# Altium footprint library PcbLib1.PcbLib: 10 footprints
Each footprint in its own frame and in the unit in brackets; x right, y up, seen from the top. Pads: shape width x height; smd on the part's side, far side on the other; paste and mask are expansions set on the pad; w line width, h text height; cw(c..) or ccw(c..) is an arc to the next point about the centre after c.
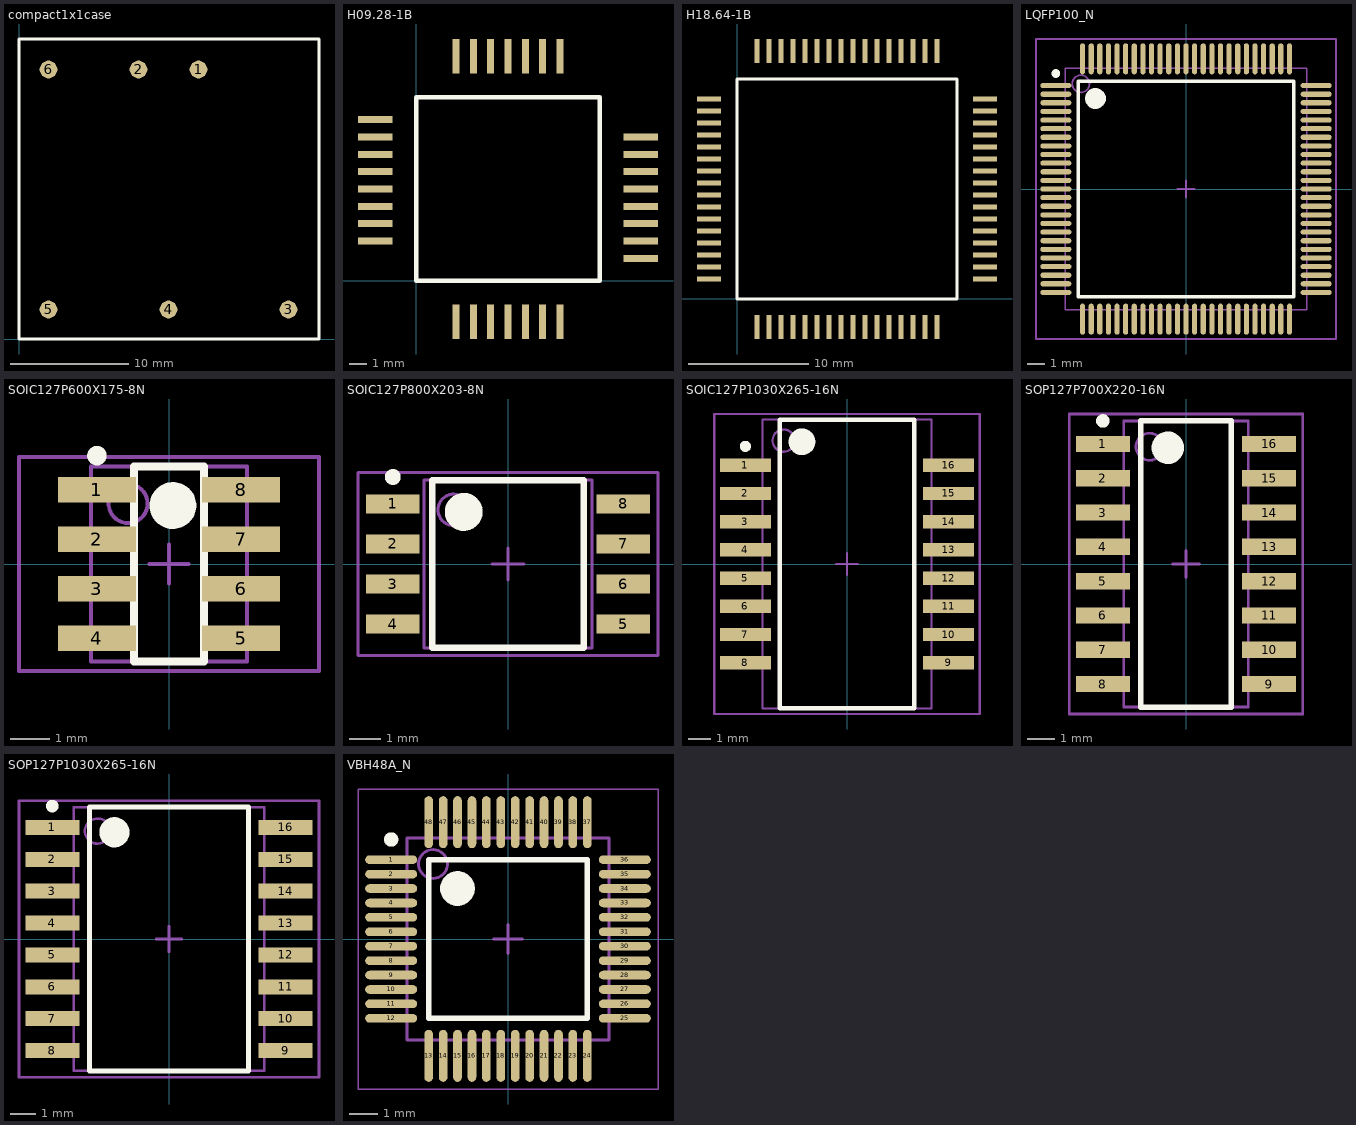
[diagram p0: the footprints below, top view; thin cyan lines are the x and y axes]

## compact1x1case [mm] "THL 10-2410WI/10-2411WI"
height 16.2
pads (6):
  round 1.5 all layers, no hole: 1(15.2,22.82) 2(10.12,22.82) 3(22.82,2.5) 4(12.66,2.5) 5(2.5,2.5) 6(2.5,22.82)
Top Overlay:
  lines w0.254: 0,0 25.4,0 25.4,25.4 0,25.4 0,0

## H09.28-1B [mm] "5559ÈÍ13Ó"
height 3
pads (30):
  rect 2x0.4 all layers, no hole: 0(-2.35,9.3) 0(12.95,1.3) 1(-2.35,4.3) 2(-2.35,3.3) 3(-2.35,2.3) 11(12.95,2.3) 12(12.95,3.3) 13(12.95,4.3) 14(12.95,5.3) 15(12.95,6.3) 16(12.95,7.3) 17(12.95,8.3) 25(-2.35,8.3) 26(-2.35,7.3) 27(-2.35,6.3) 28(-2.35,5.3)
  rect 0.4x2 all layers, no hole: 4(2.3,-2.35) 5(3.3,-2.35) 6(4.3,-2.35) 7(5.3,-2.35) 8(6.3,-2.35) 9(7.3,-2.35) 10(8.3,-2.35) 18(8.3,12.95) 19(7.3,12.95) 20(6.3,12.95) 21(5.3,12.95) 22(4.3,12.95) 23(3.3,12.95) 24(2.3,12.95)
Top Overlay:
  lines w0.254: 0,0 0,10.6 10.6,10.6 10.6,0 0,0

## H18.64-1B [mm] "Í1582ÂÆ3Â-042"
height 3
pads (64):
  rect 2x0.4 all layers, no hole: 1(-2.35,8.65) 2(-2.35,7.65) 3(-2.35,6.65) 4(-2.35,5.65) 5(-2.35,4.65) 6(-2.35,3.65) 7(-2.35,2.65) 8(-2.35,1.65) 25(20.65,1.65) 26(20.65,2.65) 27(20.65,3.65) 28(20.65,4.65) 29(20.65,5.65) 30(20.65,6.65) 31(20.65,7.65) 32(20.65,8.65) 33(20.65,9.65) 34(20.65,10.65) 35(20.65,11.65) 36(20.65,12.65) 37(20.65,13.65) 38(20.65,14.65) 39(20.65,15.65) 40(20.65,16.65) 57(-2.35,16.65) 58(-2.35,15.65) 59(-2.35,14.65) 60(-2.35,13.65) 61(-2.35,12.65) 62(-2.35,11.65) 63(-2.35,10.65) 64(-2.35,9.65)
  rect 0.4x2 all layers, no hole: 9(1.65,-2.35) 10(2.65,-2.35) 11(3.65,-2.35) 12(4.65,-2.35) 13(5.65,-2.35) 14(6.65,-2.35) 15(7.65,-2.35) 16(8.65,-2.35) 17(9.65,-2.35) 18(10.65,-2.35) 19(11.65,-2.35) 20(12.65,-2.35) 21(13.65,-2.35) 22(14.65,-2.35) 23(15.65,-2.35) 24(16.65,-2.35) 41(16.65,20.65) 42(15.65,20.65) 43(14.65,20.65) 44(13.65,20.65) 45(12.65,20.65) 46(11.65,20.65) 47(10.65,20.65) 48(9.65,20.65) 49(8.65,20.65) 50(7.65,20.65) 51(6.65,20.65) 52(5.65,20.65) 53(4.65,20.65) 54(3.65,20.65) 55(2.65,20.65) 56(1.65,20.65)
Top Overlay:
  lines w0.254: 0,0 0,18.3 18.3,18.3 18.3,0 0,0

## LQFP100_N [mm] "STM32F107VCT6"
height 1.6
pads (100):
  oval 1.8x0.3 smd: 1(-7.55,6) 2(-7.55,5.5) 3(-7.55,5) 4(-7.55,4.5) 5(-7.55,4) 6(-7.55,3.5) 7(-7.55,3) 8(-7.55,2.5) 9(-7.55,2) 10(-7.55,1.5) 11(-7.55,1) 12(-7.55,0.5) 13(-7.55,0) 14(-7.55,-0.5) 15(-7.55,-1) 16(-7.55,-1.5) 17(-7.55,-2) 18(-7.55,-2.5) 19(-7.55,-3) 20(-7.55,-3.5) 21(-7.55,-4) 22(-7.55,-4.5) 23(-7.55,-5) 24(-7.55,-5.5) 25(-7.55,-6) 51(7.55,-6) 52(7.55,-5.5) 53(7.55,-5) 54(7.55,-4.5) 55(7.55,-4) 56(7.55,-3.5) 57(7.55,-3) 58(7.55,-2.5) 59(7.55,-2) 60(7.55,-1.5) 61(7.55,-1) 62(7.55,-0.5) 63(7.55,0) 64(7.55,0.5) 65(7.55,1) 66(7.55,1.5) 67(7.55,2) 68(7.55,2.5) 69(7.55,3) 70(7.55,3.5) 71(7.55,4) 72(7.55,4.5) 73(7.55,5) 74(7.55,5.5) 75(7.55,6)
  oval 0.3x1.8 smd: 26(-6,-7.55) 27(-5.5,-7.55) 28(-5,-7.55) 29(-4.5,-7.55) 30(-4,-7.55) 31(-3.5,-7.55) 32(-3,-7.55) 33(-2.5,-7.55) 34(-2,-7.55) 35(-1.5,-7.55) 36(-1,-7.55) 37(-0.5,-7.55) 38(0,-7.55) 39(0.5,-7.55) 40(1,-7.55) 41(1.5,-7.55) 42(2,-7.55) 43(2.5,-7.55) 44(3,-7.55) 45(3.5,-7.55) 46(4,-7.55) 47(4.5,-7.55) 48(5,-7.55) 49(5.5,-7.55) 50(6,-7.55) 76(6,7.55) 77(5.5,7.55) 78(5,7.55) 79(4.5,7.55) 80(4,7.55) 81(3.5,7.55) 82(3,7.55) 83(2.5,7.55) 84(2,7.55) 85(1.5,7.55) 86(1,7.55) 87(0.5,7.55) 88(0,7.55) 89(-0.5,7.55) 90(-1,7.55) 91(-1.5,7.55) 92(-2,7.55) 93(-2.5,7.55) 94(-3,7.55) 95(-3.5,7.55) 96(-4,7.55) 97(-4.5,7.55) 98(-5,7.55) 99(-5.5,7.55) 100(-6,7.55)
Top Overlay:
  circle w0.6: c-5.25,5.25 r0.3
  circle w0.25: c-7.55,6.7 r0.125
  lines w0.2: -6.25,-6.25 6.25,-6.25 6.25,6.25 -6.25,6.25 -6.25,-6.25
Mechanical 13:
  circle w0.1: c-6.1,6.1 r0.5
  lines w0.1: -7,-7 7,-7 7,7 -7,7 -7,-7
Mechanical 15:
  lines w0.1: -0.5,0 0.5,0 ; 0,-0.5 0,0.5 ; -8.7,-8.7 8.7,-8.7 8.7,8.7 -8.7,8.7 -8.7,-8.7
3D body: height 1.6, standoff 0, extent -7,-7 7,7

## SOIC127P600X175-8N [mm] "FM25L16"
height 1.75
pads (8):
  rect 2x0.65 smd: 1(-1.85,1.905) 2(-1.85,0.635) 3(-1.85,-0.635) 4(-1.85,-1.905) 5(1.85,-1.905) 6(1.85,-0.635) 7(1.85,0.635) 8(1.85,1.905)
Top Overlay:
  circle w0.6: c0.1,1.5 r0.3
  circle w0.25: c-1.85,2.78 r0.125
  lines w0.2: -0.9,-2.5 0.9,-2.5 0.9,2.5 -0.9,2.5 -0.9,-2.5
Mechanical 13:
  circle w0.1: c-1.05,1.55 r0.5
  lines w0.1: -2,-2.5 2,-2.5 2,2.5 -2,2.5 -2,-2.5
Mechanical 15:
  lines w0.1: -0.5,0 0.5,0 ; 0,-0.5 0,0.5 ; -3.85,-2.75 3.85,-2.75 3.85,2.75 -3.85,2.75 -3.85,-2.75
3D body: height 1.75, standoff 0.1, extent -2,-2.5 2,2.5

## SOIC127P800X203-8N [mm] "FM25V20"
height 2.03
pads (8):
  rect 1.7x0.6 smd: 1(-3.65,1.905) 2(-3.65,0.635) 3(-3.65,-0.635) 4(-3.65,-1.905) 5(3.65,-1.905) 6(3.65,-0.635) 7(3.65,0.635) 8(3.65,1.905)
Top Overlay:
  circle w0.6: c-1.4,1.65 r0.3
  circle w0.25: c-3.65,2.755 r0.125
  lines w0.2: -2.4,-2.65 2.4,-2.65 2.4,2.65 -2.4,2.65 -2.4,-2.65
Mechanical 13:
  circle w0.1: c-1.715,1.715 r0.5
  lines w0.1: -2.665,-2.665 2.665,-2.665 2.665,2.665 -2.665,2.665 -2.665,-2.665
Mechanical 15:
  lines w0.1: -0.5,0 0.5,0 ; 0,-0.5 0,0.5 ; -4.75,-2.9 4.75,-2.9 4.75,2.9 -4.75,2.9 -4.75,-2.9
3D body: height 2.03, standoff 0.25, extent -2.665,-2.665 2.665,2.665

## SOIC127P1030X265-16N [mm] "ADUM4160"
height 2.65
pads (16):
  rect 2.3x0.6 smd: 1(-4.575,4.445) 2(-4.575,3.175) 3(-4.575,1.905) 4(-4.575,0.635) 5(-4.575,-0.635) 6(-4.575,-1.905) 7(-4.575,-3.175) 8(-4.575,-4.445) 9(4.575,-4.445) 10(4.575,-3.175) 11(4.575,-1.905) 12(4.575,-0.635) 13(4.575,0.635) 14(4.575,1.905) 15(4.575,3.175) 16(4.575,4.445)
Top Overlay:
  circle w0.6: c-2.025,5.5 r0.3
  circle w0.25: c-4.575,5.295 r0.125
  lines w0.2: -3.025,-6.5 3.025,-6.5 3.025,6.5 -3.025,6.5 -3.025,-6.5
Mechanical 13:
  circle w0.1: c-2.85,5.55 r0.5
  lines w0.1: -3.8,-6.5 3.8,-6.5 3.8,6.5 -3.8,6.5 -3.8,-6.5
Mechanical 15:
  lines w0.1: -0.5,0 0.5,0 ; 0,-0.5 0,0.5 ; -5.975,-6.75 5.975,-6.75 5.975,6.75 -5.975,6.75 -5.975,-6.75
3D body: height 2.65, standoff 0.2, extent -3.8,-6.5 3.8,6.5

## SOP127P700X220-16N [mm] "ACPL247"
height 2.2
pads (16):
  rect 2x0.6 smd: 1(-3.075,4.445) 2(-3.075,3.175) 3(-3.075,1.905) 4(-3.075,0.635) 5(-3.075,-0.635) 6(-3.075,-1.905) 7(-3.075,-3.175) 8(-3.075,-4.445) 9(3.075,-4.445) 10(3.075,-3.175) 11(3.075,-1.905) 12(3.075,-0.635) 13(3.075,0.635) 14(3.075,1.905) 15(3.075,3.175) 16(3.075,4.445)
Top Overlay:
  circle w0.25: c-3.075,5.295 r0.125
  circle w0.6: c-0.675,4.3 r0.3
  lines w0.2: -1.675,-5.3 -1.675,5.3 1.675,5.3 1.675,-5.3 -1.675,-5.3
Mechanical 13:
  circle w0.1: c-1.35,4.34 r0.5
  lines w0.1: -2.3,-5.29 -2.3,5.29 2.3,5.29 2.3,-5.29 -2.3,-5.29
Mechanical 15:
  lines w0.1: -0.5,0 0.5,0 ; 0,-0.5 0,0.5 ; -4.325,-5.55 -4.325,5.55 4.325,5.55 4.325,-5.55 -4.325,-5.55
3D body: height 2.2, standoff 0.22, extent -2.3,-5.29 2.3,5.29

## SOP127P1030X265-16N [mm] "TJA1052i"
height 2.65
pads (16):
  rect 2.15x0.6 smd: 1(-4.65,4.445) 2(-4.65,3.175) 3(-4.65,1.905) 4(-4.65,0.635) 5(-4.65,-0.635) 6(-4.65,-1.905) 7(-4.65,-3.175) 8(-4.65,-4.445) 9(4.65,-4.445) 10(4.65,-3.175) 11(4.65,-1.905) 12(4.65,-0.635) 13(4.65,0.635) 14(4.65,1.905) 15(4.65,3.175) 16(4.65,4.445)
Top Overlay:
  circle w0.25: c-4.65,5.295 r0.125
  circle w0.6: c-2.175,4.25 r0.3
  lines w0.2: -3.175,-5.25 -3.175,5.25 3.175,5.25 3.175,-5.25 -3.175,-5.25
Mechanical 13:
  circle w0.1: c-2.85,4.3 r0.5
  lines w0.1: -3.8,-5.25 -3.8,5.25 3.8,5.25 3.8,-5.25 -3.8,-5.25
Mechanical 15:
  lines w0.1: -0.5,0 0.5,0 ; 0,-0.5 0,0.5 ; -5.975,-5.5 -5.975,5.5 5.975,5.5 5.975,-5.5 -5.975,-5.5
3D body: height 2.65, standoff 0.32, extent -3.8,-5.25 3.8,5.25

## VBH48A_N [mm] "DP83848C"
height 1.6
pads (48):
  oval 1.8x0.3 smd: 1(-4.05,2.75) 2(-4.05,2.25) 3(-4.05,1.75) 4(-4.05,1.25) 5(-4.05,0.75) 6(-4.05,0.25) 7(-4.05,-0.25) 8(-4.05,-0.75) 9(-4.05,-1.25) 10(-4.05,-1.75) 11(-4.05,-2.25) 12(-4.05,-2.75) 25(4.05,-2.75) 26(4.05,-2.25) 27(4.05,-1.75) 28(4.05,-1.25) 29(4.05,-0.75) 30(4.05,-0.25) 31(4.05,0.25) 32(4.05,0.75) 33(4.05,1.25) 34(4.05,1.75) 35(4.05,2.25) 36(4.05,2.75)
  oval 0.3x1.8 smd: 13(-2.75,-4.05) 14(-2.25,-4.05) 15(-1.75,-4.05) 16(-1.25,-4.05) 17(-0.75,-4.05) 18(-0.25,-4.05) 19(0.25,-4.05) 20(0.75,-4.05) 21(1.25,-4.05) 22(1.75,-4.05) 23(2.25,-4.05) 24(2.75,-4.05) 37(2.75,4.05) 38(2.25,4.05) 39(1.75,4.05) 40(1.25,4.05) 41(0.75,4.05) 42(0.25,4.05) 43(-0.25,4.05) 44(-0.75,4.05) 45(-1.25,4.05) 46(-1.75,4.05) 47(-2.25,4.05) 48(-2.75,4.05)
Top Overlay:
  circle w0.25: c-4.05,3.45 r0.125
  circle w0.6: c-1.75,1.75 r0.3
  lines w0.2: -2.75,-2.75 -2.75,2.75 2.75,2.75 2.75,-2.75 -2.75,-2.75
Mechanical 13:
  circle w0.1: c-2.6,2.6 r0.5
  lines w0.1: -3.5,-3.5 -3.5,3.5 3.5,3.5 3.5,-3.5 -3.5,-3.5
Mechanical 15:
  lines w0.05: -5.2,-5.2 -5.2,5.2 5.2,5.2 5.2,-5.2 -5.2,-5.2
  lines w0.1: -0.5,0 0.5,0 ; 0,-0.5 0,0.5
3D body: height 1.6, standoff 0, extent -3.5,-3.5 3.5,3.5